# EAGLE library part USB-A-FEMALE-180 (library my_con)
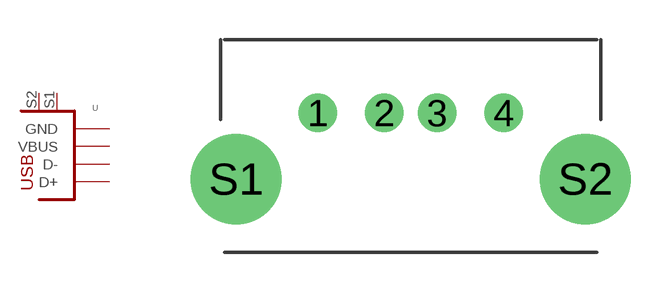
[diagram p8: symbol with the pads of USB-TYPE-A-FEMALE-180; footprint USB-TYPE-A-FEMALE-180]

Designator prefix -

## USB-A-FEMALE-180  [USB-TYPE-A-FEMALE-180]
1  VBUS
2  D-
3  D+
4  GND
S1  S1
S2  S2

## Footprint USB-TYPE-A-FEMALE-180 (pad centres in mm)
drill 0.95: 1 -3.5,1.25; 2 -1,1.25; 3 1,1.25; 4 3.5,1.25
drill 2.4: S1 -6.57,-1.25; S2 6.57,-1.25